# Altium footprint library myConnectors.PcbLib: 58 footprints (part 4 of 4)
Each footprint in its own frame and in the unit in brackets; x right, y up, seen from the top. Pads: shape width x height; smd on the part's side, far side on the other; paste and mask are expansions set on the pad; w line width, h text height; cw(c..) or ccw(c..) is an arc to the next point about the centre after c.
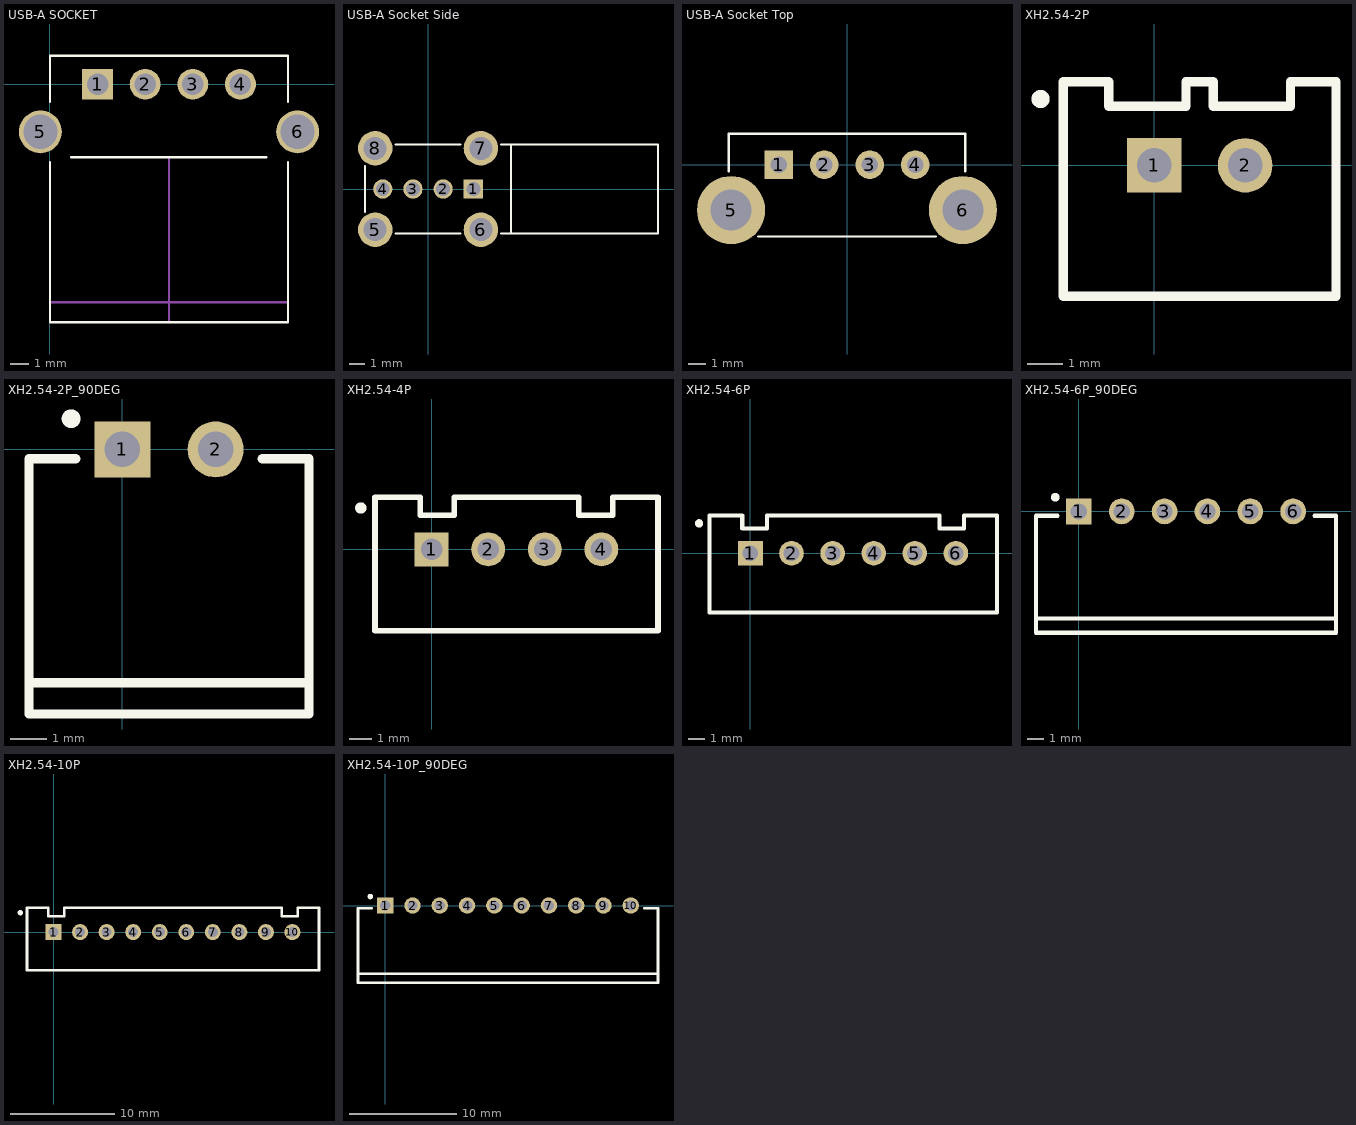
[diagram p3: the footprints below, top view; thin cyan lines are the x and y axes]

## USB-A SOCKET [mil]
pads (6):
  rect 65x65 hole 45: 1(100,0)
  round 65 hole 45: 2(200,0) 3(300,0) 4(400,0)
  round 90 hole 72: 5(-20,-100) 6(520,-100)
Top Overlay:
  lines w5: 0,-164 0,-500 500,-500 500,-164 ; 0,-37 0,60 500,60 500,-37 ; 45,-153 454,-153
Mechanical 13:
  lines w5: 0,-458 497,-458 ; 250,-497 250,-153
3D body: height 100, standoff 0, extent 0,-500 500,60

## USB-A Socket Side [mm]
height 13.462
pads (8):
  rect 1.27x1.27 hole 0.92: 1(3,0)
  round 1.27 hole 0.92: 2(1,0) 3(-1,0) 4(-3,0)
  round 2.286 hole 1.524: 5(-3.5,-2.7) 6(3.5,-2.7) 7(3.5,2.7) 8(-3.5,2.7)
Top Overlay:
  lines w0.127: -4.191,-1.524 -4.191,1.524 ; -2.159,-2.946 2.159,-2.946 ; -2.159,2.946 2.159,2.946 ; 4.826,-2.946 15.24,-2.946 15.24,2.946 4.826,2.946 ; 5.486,-2.946 5.486,2.946
3D body: height 13.46, standoff 0, extent -4.191,-2.921 15.24,2.921

## USB-A Socket Top [mil]
height 550
pads (6):
  rect 63x63 hole 37: 1(-150,0)
  round 63 hole 37: 2(-50,0) 3(50,0) 4(150,0)
  round 150 hole 90: 5(-255,-100) 6(255,-100)
Top Overlay:
  lines w5: -260,-15 -260,68 260,68 260,-15 ; -195,-158 195,-158
3D body: height 550, standoff 0, extent -261,-158 260,70

## XH2.54-2P [mil]
height 270
pads (2):
  rect 60x60 hole 38: 1(0,0)
  round 60 hole 38: 2(100,0)
Top Overlay:
  circle w10: c-125,73 r5
  lines w10: -100,-144 -100,40 -100,92 -50,92 -50,65 35,65 35,92 65,92 65,65 150,65 150,92 200,92 200,-144 -100,-144
3D body: height 270, standoff 0, extent -100,-145 200,90

## XH2.54-2P_90DEG [mil]
height 228.35
pads (2):
  rect 60x60 hole 38: 1(0,0)
  round 60 hole 38: 2(100,0)
Top Overlay:
  circle w10: c-55,33 r5
  lines w10: -100,-250 200,-250 ; -50,-10 -100,-10 -100,-283.46 200,-283.46 200,-10 150,-10
3D body: height 295.28, standoff 59.06, extent -100,-280 200,-10

## XH2.54-4P [mil]
height 270
pads (4):
  rect 60x60 hole 38: 1(0,0)
  round 60 hole 38: 2(100,0) 3(200,0) 4(300,0)
Top Overlay:
  circle w10: c-125,73 r5
  lines w10: 400,-144 -100,-144 -100,40 -100,92 -20,92 -20,60 40,60 40,92 260,92 260,60 320,60 320,92 400,92 400,-140
3D body: height 100, standoff 0, extent -100,-145 400,90

## XH2.54-6P [mil]
height 270
pads (6):
  rect 60x60 hole 38: 1(0,0)
  round 60 hole 38: 2(100,0) 3(200,0) 4(300,0) 5(400,0) 6(500,0)
Top Overlay:
  circle w10: c-125,73 r5
  lines w10: -100,-144 600,-144 600,92 520,92 520,60 460,60 460,92 40,92 40,60 -20,60 -20,92 -100,92 -100,40 -100,-144
3D body: height 100, standoff 0, extent -100,-145 600,90

## XH2.54-6P_90DEG [mil]
height 228.35
pads (6):
  rect 60x60 hole 38: 1(0,0)
  round 60 hole 38: 2(100,0) 3(200,0) 4(300,0) 5(400,0) 6(500,0)
Top Overlay:
  circle w10: c-55,33 r5
  lines w10: -100,-250 600,-250 ; -50,-10 -100,-10 -100,-283.46 600,-283.46 600,-10 550,-10
3D body: height 295.28, standoff 59.06, extent -100,-280 600,-10

## XH2.54-10P [mil]
height 270
pads (10):
  rect 60x60 hole 38: 1(0,0)
  round 60 hole 38: 2(100,0) 3(200,0) 4(300,0) 5(400,0) 6(500,0) 7(600,0) 8(700,0) 9(800,0) 10(900,0)
Top Overlay:
  circle w10: c-125,73 r5
  lines w10: -100,-144 1000,-144 1000,92 920,92 920,60 860,60 860,92 40,92 40,60 -20,60 -20,92 -100,92 -100,40 -100,-144
3D body: height 270, standoff 0, extent -100,-145 1000,95

## XH2.54-10P_90DEG [mil]
height 228.35
pads (10):
  rect 60x60 hole 38: 1(0,0)
  round 60 hole 38: 2(100,0) 3(200,0) 4(300,0) 5(400,0) 6(500,0) 7(600,0) 8(700,0) 9(800,0) 10(900,0)
Top Overlay:
  circle w10: c-55,33 r5
  lines w10: -100,-250 1000,-250 ; -50,-10 -100,-10 -100,-283.46 1000,-283.46 1000,-10 950,-10
3D body: height 295.28, standoff 59.06, extent -100,-280 1000,-10